# EAGLE library part M2X3 (library connectors2)
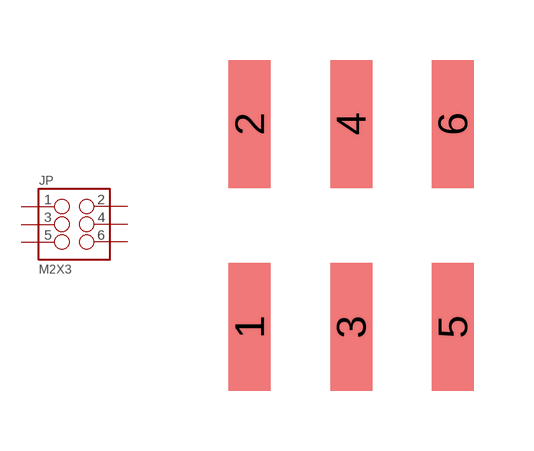
[diagram p0: symbol with the pads of M2X3; footprint M2X3]

Designator prefix JP

## M2X3 (DIGIKEY: 952-1922-ND)  [M2X3]
1  1
2  2
3  3
4  4
5  5
6  6

## Footprint M2X3 (pad centres in mm)
smd 1.05 x 3.2: 1 -2.54,-2.54; 2 -2.54,2.54; 3 0,-2.54; 4 0,2.54; 5 2.54,-2.54; 6 2.54,2.54